# Altium footprint library SPRH127.PcbLib: 1 footprints
Each footprint in its own frame and in the unit in brackets; x right, y up, seen from the top. Pads: shape width x height; smd on the part's side, far side on the other; paste and mask are expansions set on the pad; w line width, h text height; cw(c..) or ccw(c..) is an arc to the next point about the centre after c.
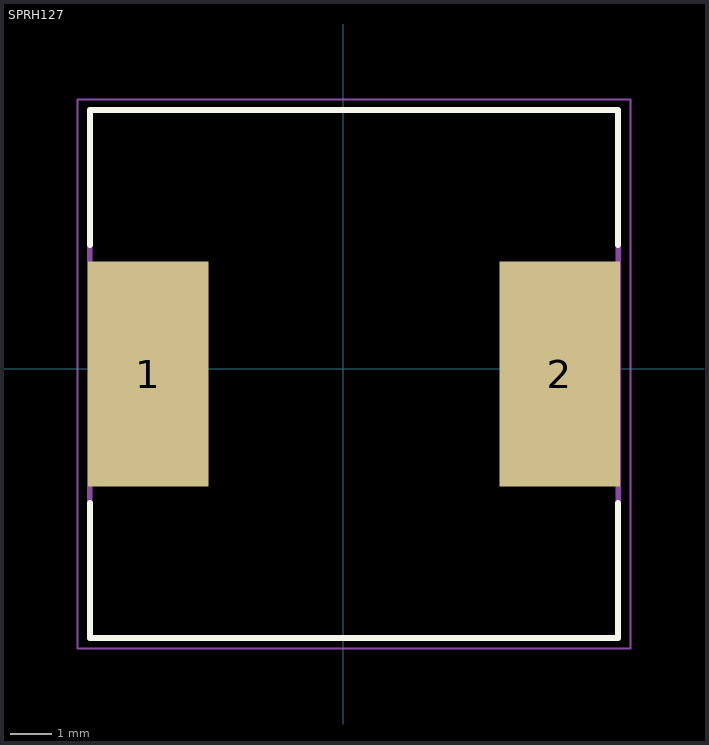
[diagram p0: the footprint, top view; thin cyan lines are the x and y axes]

## SPRH127 [mm]
pads (2):
  rect 2.9x5.4 smd: 1(-4.696,-0.127) 2(5.204,-0.127)
Top Overlay:
  lines w0.15: -6.096,-3.227 -6.096,-6.477 6.604,-6.477 6.604,-3.227 ; -6.096,2.973 -6.096,6.223 6.604,6.223 6.604,2.973
Mechanical 13:
  lines w0.127: -6.096,-6.477 -6.096,6.223 6.604,6.223 6.604,-6.477 -6.096,-6.477
Mechanical 15:
  lines w0.05: -6.396,-6.727 -6.396,6.473 6.904,6.473 6.904,-6.727 -6.396,-6.727
3D body "step_temp.STEP": height 8.05, standoff 0, extent -5.746,-6.127 6.254,5.873